# EAGLE library part 6120XX22021_61202422021 (library Eagle_WR-BHD (rev21a))
WR-BHD 2.54 mm Male Box Header with short lever KIND PROPERTIES: Pitch 2.54 mm Gender:Male MATERIAL PROPERTIES: Insulator Material:PBT Insulator Flammability Rating UL94 V-0 Insulator Color:Black Contact Material :Copper Alloy Contact Plating :Gold Contact Type: Stamped GENERAL INFORMATION: Operating Temperature:-40 °C up to +125 °C Compliance:RoHS Working Voltage: 250 V (AC) Withstanding Voltage:500 V (AC) Contact Resistance: 20 mΩ Insulation Resistance:1000 MΩ PACKAGING PROPERTIES Packaging :Tray <https://www.we-online.de/katalog/media/o77864v209%20Family_61201022821.jpg> Details see: https://www.we-online.de/katalog/en/em/BHD_2_54_MALE_BOX_HEADER_WITH_SHORT_LEVER_6120XX22021 Updated by Yingchun,Shan 2019-10-30 2019 (C) Würth Elektronik
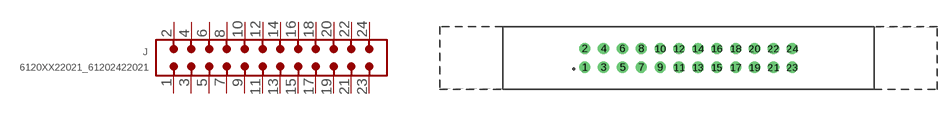
[diagram p160: symbol with the pads of 61202422021; footprint 61202422021]

Designator prefix J

## 6120XX22021_61202422021 (CONTACT-RESISTANCE: 20mOhm; DATASHEET-URL: https://www.we-online.com/catalog/datasheet/61202422021.pdf; GENDER: Male; IR: 3A; L: 49.98mm; MOUNT: THT; PACKAGING: Tray; PART-NUMBER: 61202422021; PINS: 24; PITCH: 2.54mm; TYPE: Straight; VALUE: 61202422021; WORKING-VOLTAGE: 250V(AC))  [61202422021]
1  1  pas
2  2  pas
3  3  pas
4  4  pas
5  5  pas
6  6  pas
7  7  pas
8  8  pas
9  9  pas
10  10  pas
11  11  pas
12  12  pas
13  13  pas
14  14  pas
15  15  pas
16  16  pas
17  17  pas
18  18  pas
19  19  pas
20  20  pas
21  21  pas
22  22  pas
23  23  pas
24  24  pas

## Footprint 61202422021 (pad centres in mm)
WR-BHD 2.54 mm Male Box Header with short lever, 24 Pins
drill 1.02: 1 -13.97,-1.27; 2 -13.97,1.27; 3 -11.43,-1.27; 4 -11.43,1.27; 5 -8.89,-1.27; 6 -8.89,1.27; 7 -6.35,-1.27; 8 -6.35,1.27; 9 -3.81,-1.27; 10 -3.81,1.27; 11 -1.27,-1.27; 12 -1.27,1.27; 13 1.27,-1.27; 14 1.27,1.27; 15 3.81,-1.27; 16 3.81,1.27; 17 6.35,-1.27; 18 6.35,1.27; 19 8.89,-1.27; 20 8.89,1.27; 21 11.43,-1.27; 22 11.43,1.27; 23 13.97,-1.27; 24 13.97,1.27